# Altium footprint library gb2040.PcbLib: 20 footprints (part 1 of 2)
Each footprint in its own frame and in the unit in brackets; x right, y up, seen from the top. Pads: shape width x height; smd on the part's side, far side on the other; paste and mask are expansions set on the pad; w line width, h text height; cw(c..) or ccw(c..) is an arc to the next point about the centre after c.
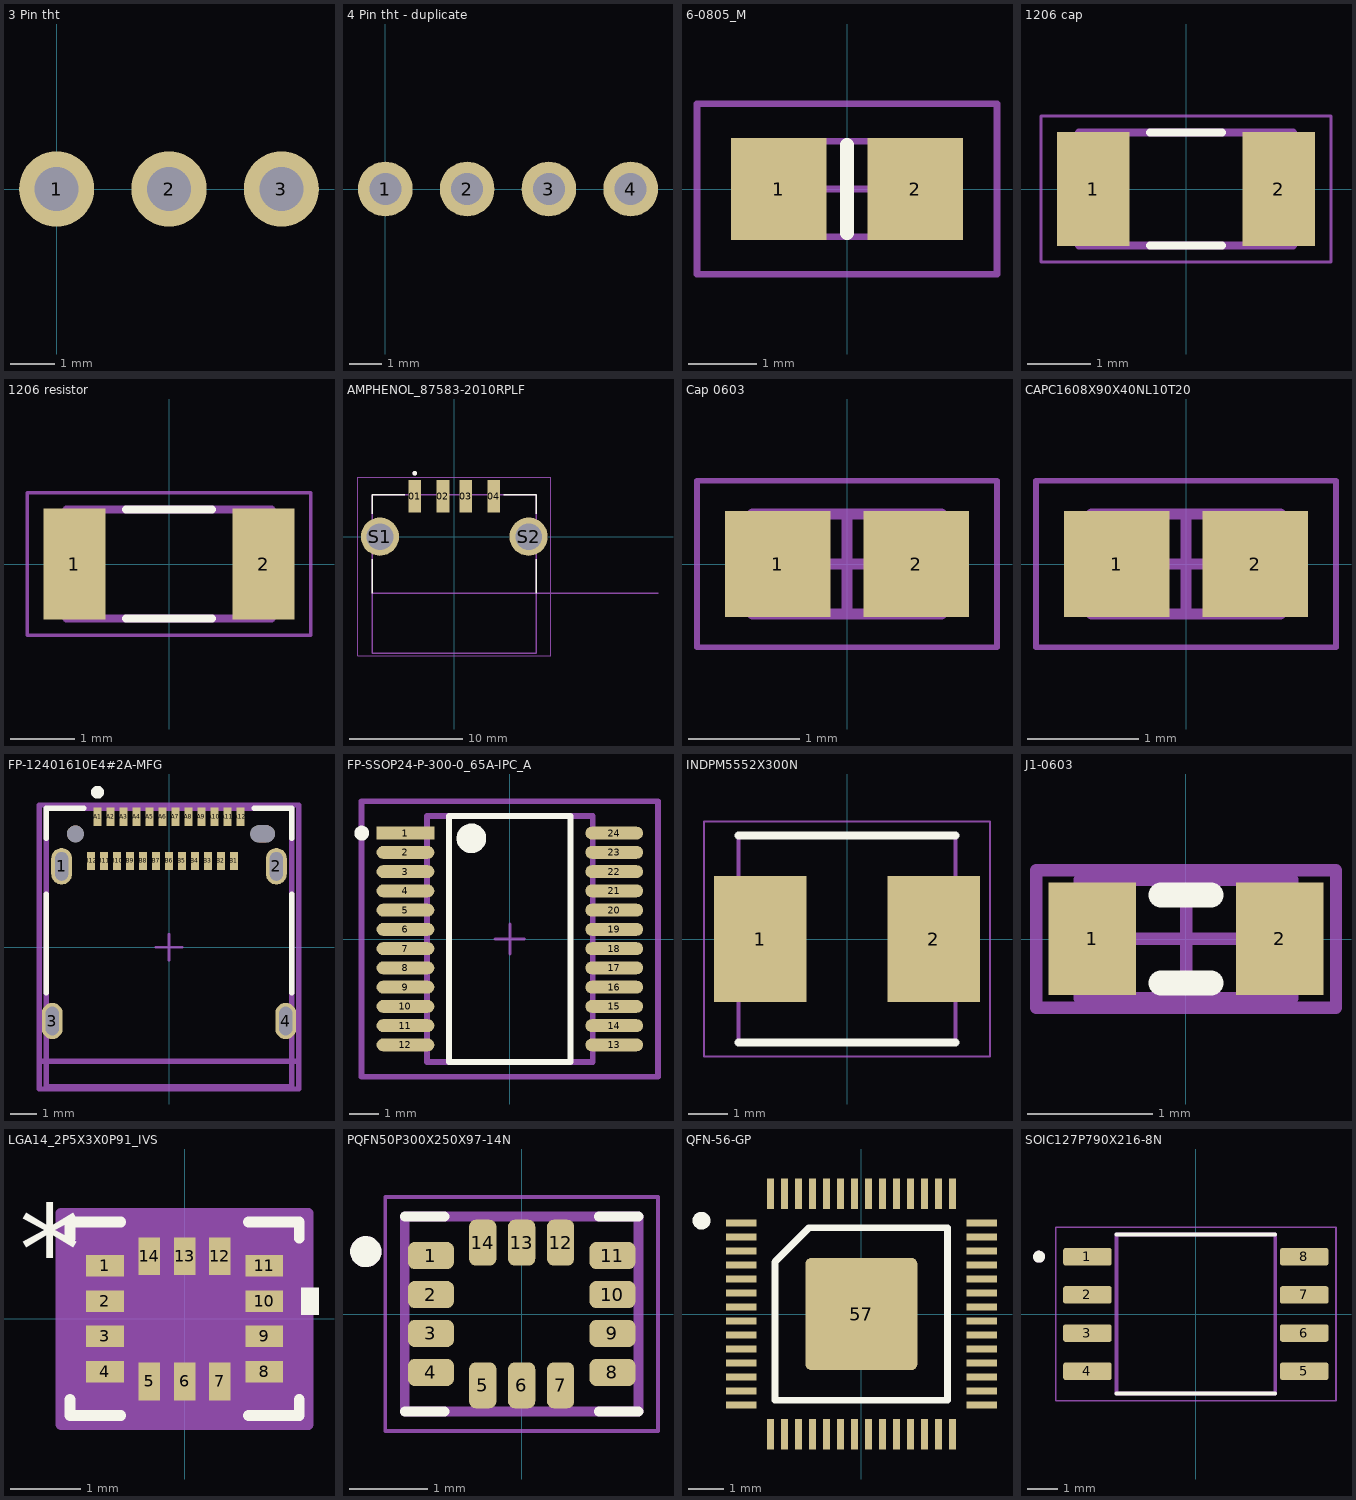
[diagram p0: the footprints below, top view; thin cyan lines are the x and y axes]

## 3 Pin tht [mm] "3 pin servo"
pads (3):
  round 1.7 hole 1 paste-1000 mask+0: 1(0,0) 2(2.54,0) 3(5.08,0)

## 4 Pin tht - duplicate [mm] "4 pin THT"
pads (4):
  round 1.7 hole 1 paste-1000 mask+0: 1(0,0) 2(2.54,0) 3(5.08,0) 4(7.62,0)

## 6-0805_M [mm] "Chip Resistor, Body 2.0x1.2mm, IPC Low Density"
height 0.7
pads (2):
  rect 1.4x1.5 smd: 1(-1,0) 2(1,0)
Top Overlay:
  lines w0.2: 0,-0.65 0,0.65
Mechanical 13:
  lines w0.1: -1.075,-0.7 -1.075,0.7 1.075,0.7 1.075,-0.7 -1.075,-0.7
Mechanical 15:
  lines w0.1: -0.5,0 0.5,0 ; 0,-0.5 0,0.5 ; -2.2,-1.25 -2.2,1.25 2.2,1.25 2.2,-1.25 -2.2,-1.25
3D body: height 0.7, standoff 0, extent -1.075,-0.7 1.075,0.7

## 1206 cap [mm]
pads (2):
  rect 1.16x1.82 smd: 1(-1.475,0) 2(1.475,0)
Top Overlay:
  lines w0.127: -0.57,-0.9 0.57,-0.9 ; -0.57,0.9 0.57,0.9
Mechanical 13:
  lines w0.127: -1.7,-0.9 1.7,-0.9 1.7,0.9 -1.7,0.9 -1.7,-0.9
Mechanical 15:
  lines w0.05: -2.308,-1.158 2.308,-1.158 2.308,1.158 -2.308,1.158 -2.308,-1.158
3D body "GRM32EC81C476KE15K.step": height 2.49, standoff -0.01, extent -1.6,-1.397 1.6,1.303

## 1206 resistor [mm] "based of RC1206JR-0713RL"
pads (2):
  rect 0.97x1.73 smd: 1(-1.48,0) 2(1.48,0)
Top Overlay:
  lines w0.127: -0.67,-0.85 0.67,-0.85 ; -0.67,0.85 0.67,0.85
Mechanical 13:
  lines w0.127: -1.6,-0.85 1.6,-0.85 1.6,0.85 -1.6,0.85 -1.6,-0.85
Mechanical 15:
  lines w0.05: -2.215,-1.115 2.215,-1.115 2.215,1.115 -2.215,1.115 -2.215,-1.115
3D body "step_temp.STEP": height 0.65, standoff 0, extent -1.55,-0.8 1.55,0.8

## AMPHENOL_87583-2010RPLF [mm]
height 7.74
pads (6):
  rect 1.12x2.88 smd: 01(-3.5,3.58) 02(-1,3.58) 03(1,3.58) 04(3.5,3.58)
  round 3.376 hole 2.36: S1(-6.57,0) S2(6.57,0)
Top Overlay:
  circle w0.2: c-3.5,5.6 r0.1
  lines w0.127: -7.25,-5 -7.25,-2.008 ; -7.25,2.008 -7.25,3.72 -4.38,3.72 ; 4.38,3.72 7.25,3.72 7.25,2.008 ; 7.25,-5 7.25,-2.008
Mechanical 13:
  circle w0.2: c-3.5,5.6 r0.1
  lines w0.127: 18,-5 -7.25,-5 ; -7.25,-5 -7.25,-10.28 7.25,-10.28 7.25,3.72 -7.25,3.72 -7.25,-5
  text "PCB EDGE" at 9,-4.5 h1.27
Mechanical 15:
  lines w0.05: -8.508,-10.53 8.508,-10.53 8.508,5.27 -8.508,5.27 -8.508,-10.53
3D body "step_temp.STEP": height 7.74, standoff -2.63, extent -7.25,-10.28 7.25,4.603

## Cap 0603 [mm] "Chip Capacitor, 2-Leads, Body 1.70x0.90mm, IPC Medium Density"
height 0.9
pads (2):
  rect 0.95x0.95 smd: 1(-0.625,0) 2(0.625,0)
Mechanical 13:
  lines w0.1: -0.85,-0.45 0.85,-0.45 0.85,0.45 -0.85,0.45 -0.85,-0.45
Mechanical 15:
  lines w0.05: -1.35,-0.75 1.35,-0.75 1.35,0.75 -1.35,0.75 -1.35,-0.75
  lines w0.1: -0.45,0 0.45,0 ; 0,-0.45 0,0.45
3D body "CAPC1608X09N.step": height 0.9, standoff 0, extent -0.85,-0.45 0.85,0.45

## CAPC1608X90X40NL10T20 [mm] "Chip Capacitor, 2-Leads, Body 1.70x0.90mm, IPC Medium Density"
height 0.9
pads (2):
  rect 0.95x0.95 smd: 1(-0.625,0) 2(0.625,0)
Mechanical 13:
  lines w0.1: -0.85,-0.45 -0.85,0.45 0.85,0.45 0.85,-0.45 -0.85,-0.45
Mechanical 15:
  lines w0.05: -1.35,-0.75 -1.35,0.75 1.35,0.75 1.35,-0.75 -1.35,-0.75
  lines w0.1: -0.45,0 0.45,0 ; 0,-0.45 0,0.45
3D body "CAPC1608X09N.step": height 0.9, standoff 0, extent -0.85,-0.45 0.85,0.45

## FP-12401610E4#2A-MFG [mm]
pads (30):
  rrect100% 0.8x1.4 hole 1.1 slot 0.5 at 0 deg paste-1000 mask+0: 1(-4.13,3.115) 2(4.13,3.115) 3(-4.49,-2.835) 4(4.49,-2.835)
  rect 0.3x0.7 smd paste+0 mask+0: A1(-2.75,5.025) A2(-2.25,5.025) A3(-1.75,5.025) A4(-1.25,5.025) A5(-0.75,5.025) A6(-0.25,5.025) A7(0.25,5.025) A8(0.75,5.025) A9(1.25,5.025) A10(1.75,5.025) A11(2.25,5.025) A12(2.75,5.025) B1(2.5,3.325) B2(2,3.325) B3(1.5,3.325) B4(1,3.325) B5(0.5,3.325) B6(0,3.325) B7(-0.5,3.325) B8(-1,3.325) B9(-1.5,3.325) B10(-2,3.325) B11(-2.5,3.325) B12(-3,3.325)
  round 0.65 hole 0.65 unplated paste-1000 mask+0: ""(-3.6,4.365)
  rrect100% 0.95x0.65 hole 0.65 slot 0.95 at 0 deg unplated paste-1000 mask+0: ""(3.6,4.365)
Top Overlay:
  circle w0.25: c-2.75,5.965 r0.125
  lines w0.2: -4.725,-1.76 -4.725,2.04 ; -4.725,4.19 -4.725,5.35 -3.275,5.35 ; 3.275,5.35 4.725,5.35 4.725,4.19 ; 4.725,-1.76 4.725,2.04
Top 3D Body:
  lines w0.2: -4.99,-4.385 4.99,-4.385 ; -4.725,-5.35 4.725,-5.35 4.725,5.35 -4.725,5.35 -4.725,-5.35
Top Courtyard:
  lines w0.2: -4.99,-5.45 4.99,-5.45 4.99,5.475 -4.99,5.475 -4.99,-5.45
Top Assembly:
  lines w0.2: -4.99,-5.45 4.99,-5.45 4.99,5.475 -4.99,5.475 -4.99,-5.45
  text ".Designator" at 0,0.012 h1
Top Component Center:
  lines w0.1: -0.5,0 0.5,0 ; 0,-0.5 0,0.5
3D body "Conn_Amphenol_12401610E4#2A_eec.STEP": height 0.25, standoff 0, extent -4.99,-5.45 4.99,5.475

## FP-SSOP24-P-300-0_65A-IPC_A [mm]
pads (24):
  rect 1.954x0.432 smd paste+0 mask+0: 1(-3.525,3.575)
  rrect100% 1.954x0.432 smd paste+0 mask+0: 2(-3.525,2.925) 3(-3.525,2.275) 4(-3.525,1.625) 5(-3.525,0.975) 6(-3.525,0.325) 7(-3.525,-0.325) 8(-3.525,-0.975) 9(-3.525,-1.625) 10(-3.525,-2.275) 11(-3.525,-2.925) 12(-3.525,-3.575) 13(3.525,-3.575) 14(3.525,-2.925) 15(3.525,-2.275) 16(3.525,-1.625) 17(3.525,-0.975) 18(3.525,-0.325) 19(3.525,0.325) 20(3.525,0.975) 21(3.525,1.625) 22(3.525,2.275) 23(3.525,2.925) 24(3.525,3.575)
Top Overlay:
  circle w0.5: c-1.298,3.4 r0.25
  circle w0.25: c-5.002,3.575 r0.125
  lines w0.2: -2.048,-4.15 2.048,-4.15 2.048,4.15 -2.048,4.15 -2.048,-4.15
Top 3D Body:
  lines w0.2: -2.8,-4.15 2.8,-4.15 2.8,4.15 -2.8,4.15 -2.8,-4.15
Top Courtyard:
  lines w0.2: -5.002,-4.65 5.002,-4.65 5.002,4.65 -5.002,4.65 -5.002,-4.65
Top Assembly:
  lines w0.2: -5.002,-4.65 5.002,-4.65 5.002,4.65 -5.002,4.65 -5.002,-4.65
  text ".Designator" at 0,0.188 h1
Top Component Center:
  lines w0.1: -0.5,0 0.5,0 ; 0,-0.5 0,0.5
3D body "IC_Toshiba_TB6612FNG_C_8_EL_eec.STEP": height 0.25, standoff 0, extent -5.002,-4.65 5.002,4.65

## INDPM5552X300N [mm]
pads (2):
  rect 2.35x3.2 smd: 1(-2.2,0) 2(2.2,0)
Top Overlay:
  lines w0.2: -2.75,-2.625 2.75,-2.625 ; -2.75,2.625 2.75,2.625
Mechanical 15:
  lines w0.1: -2.75,-2.625 -2.75,2.625 2.75,2.625 2.75,-2.625 -2.75,-2.625
Bottom Assembly:
  lines w0.05: -3.625,-2.975 -3.625,2.975 3.625,2.975 3.625,-2.975 -3.625,-2.975

## J1-0603 [mm] "Chip Resistor, Body 1.6x0.8mm, IPC High Density"
height 0.9
pads (2):
  rect 0.7x0.9 smd: 1(-0.75,0) 2(0.75,0)
Top Overlay:
  lines w0.2: -0.2,-0.35 0.2,-0.35 ; -0.2,0.35 0.2,0.35
Mechanical 13:
  lines w0.1: -0.85,-0.475 0.85,-0.475 0.85,0.475 -0.85,0.475 -0.85,-0.475
Mechanical 15:
  lines w0.1: -0.475,0 0.475,0 ; 0,-0.475 0,0.475 ; -1.2,-0.55 1.2,-0.55 1.2,0.55 -1.2,0.55 -1.2,-0.55
3D body: height 0.9, standoff 0, extent -0.85,-0.475 0.85,0.475

## LGA14_2P5X3X0P91_IVS [mil]
pads (14):
  rect 21x12 smd paste+0 mask+0: 1(-44.5,29.53) 2(-44.5,9.84) 3(-44.5,-9.84) 4(-44.5,-29.53) 8(44.5,-29.53) 9(44.5,-9.84) 10(44.5,9.84) 11(44.5,29.53)
  rect 12x21 smd paste+0 mask+0: 5(-19.68,-35) 6(0,-35) 7(19.68,-35) 12(19.68,35) 13(0,35) 14(-19.68,35)
Top Overlay:
  region: 65,17.34 75,17.34 75,2.34 65,2.34
  lines w6: -64,-45.05 -64,-54 -35.65,-54 ; -64,45.05 -64,54 -35.65,54 ; 35.65,-54 64,-54 64,-45.05 ; 35.65,54 64,54 64,45.05
  text "*" at -92.5,14.37 h50
Mechanical 13:
  lines w1: -59,-1 -9,49 ; -59,-49 59,-49 59,49 -59,49 -59,-49 ; -59,-35.53 -59,-23.53 -55,-23.53 -55,-35.53 -59,-35.53 ; -59,-15.84 -59,-3.84 -55,-3.84 -55,-15.84 -59,-15.84 ; -59,3.84 -59,15.84 -55,15.84 -55,3.84 -59,3.84 ; -59,23.53 -59,35.53 -55,35.53 -55,23.53 -59,23.53 ; -25.68,-49 -13.69,-49 -13.69,-45.5 -25.68,-45.5 -25.68,-49 ; -25.68,45.5 -13.69,45.5 -13.69,49 -25.68,49 -25.68,45.5 ; -6,-49 6,-49 6,-45.5 -6,-45.5 -6,-49 ; -6,45.5 6,45.5 6,49 -6,49 -6,45.5 ; 13.69,-49 25.68,-49 25.68,-45.5 13.69,-45.5 13.69,-49 ; 13.69,45.5 25.68,45.5 25.68,49 13.69,49 13.69,45.5 ; 55,-35.53 59,-35.53 59,-23.53 55,-23.53 55,-35.53 ; 55,-15.84 59,-15.84 59,-3.84 55,-3.84 55,-15.84 ; 55,3.84 59,3.84 59,15.84 55,15.84 55,3.84 ; 55,23.53 59,23.53 59,35.53 55,35.53 55,23.53
  text "*" at -46.5,14.37 h50
Mechanical 15:
  region: -35.69,-59 -69,-59 -69,-45.53 -69,45.53 -69,59 -35.69,59 35.69,59 69,59 69,45.53 69,-45.53 69,-59 35.69,-59
  lines w6: -69,-59 -69,-45.53 -69,45.53 -69,59 -35.69,59 35.69,59 69,59 69,45.53 69,-45.53 69,-59 35.69,-59 -35.69,-59 -69,-59
3D body "LGA14_2P5X3X0P91_IVS.step": height 38.11, standoff 0, extent -59.02,-49.02 59.02,49.02

## PQFN50P300X250X97-14N [mm]
pads (14):
  rrect50% 0.59x0.35 smd mask+0: 1(-1.165,0.75) 2(-1.165,0.25) 3(-1.165,-0.25) 4(-1.165,-0.75) 8(1.165,-0.75) 9(1.165,-0.25) 10(1.165,0.25) 11(1.165,0.75)
  rrect50% 0.35x0.59 smd mask+0: 5(-0.5,-0.915) 6(0,-0.915) 12(0.5,0.915) 13(0,0.915) 14(-0.5,0.915)
  rrect50% 0.35x0.59 smd mask+0.102: 7(0.5,-0.915)
Top Overlay:
  circle w0.2: c-2,0.8 r0.1
  lines w0.127: -1.5,-1.25 -0.99,-1.25 ; -1.5,1.25 -0.99,1.25 ; 0.99,-1.25 1.5,-1.25 ; 0.99,1.25 1.5,1.25
Mechanical 13:
  circle w0.2: c-2,0.8 r0.1
  lines w0.127: -1.5,-1.25 1.5,-1.25 1.5,1.25 -1.5,1.25 -1.5,-1.25
Mechanical 15:
  lines w0.05: -1.75,-1.5 1.75,-1.5 1.75,1.5 -1.75,1.5 -1.75,-1.5
3D body "ICM-42688-P.step": height 0.98, standoff 0.01, extent -1.5,-1.25 1.5,1.25

## QFN-56-GP [mm]
pads (57):
  rect 0.875x0.2 smd mask+0.05: 1(-3.437,2.6) 2(-3.437,2.2) 3(-3.437,1.8) 4(-3.437,1.4) 5(-3.437,1) 6(-3.437,0.6) 7(-3.437,0.2) 8(-3.437,-0.2) 9(-3.437,-0.6) 10(-3.437,-1) 11(-3.437,-1.4) 12(-3.437,-1.8) 13(-3.437,-2.2) 14(-3.437,-2.6) 29(3.437,-2.6) 30(3.437,-2.2) 31(3.437,-1.8) 32(3.437,-1.4) 33(3.437,-1) 34(3.437,-0.6) 35(3.437,-0.2) 36(3.437,0.2) 37(3.437,0.6) 38(3.437,1) 39(3.437,1.4) 40(3.437,1.8) 41(3.437,2.2) 42(3.437,2.6)
  rect 0.2x0.875 smd mask+0.05: 15(-2.6,-3.437) 16(-2.2,-3.437) 17(-1.8,-3.437) 18(-1.4,-3.437) 19(-1,-3.437) 20(-0.6,-3.437) 21(-0.2,-3.437) 22(0.2,-3.437) 23(0.6,-3.437) 24(1,-3.437) 25(1.4,-3.437) 26(1.8,-3.437) 27(2.2,-3.437) 28(2.6,-3.437) 43(2.6,3.437) 44(2.2,3.437) 45(1.8,3.437) 46(1.4,3.437) 47(1,3.437) 48(0.6,3.437) 49(0.2,3.437) 50(-0.2,3.437) 51(-0.6,3.437) 52(-1,3.437) 53(-1.4,3.437) 54(-1.8,3.437) 55(-2.2,3.437) 56(-2.6,3.437)
  rrect10% 3.2x3.2 smd paste-1000 mask+0: 57(0,0)
Top Overlay:
  circle w0.254: c-4.572,2.667 r0.127
  lines w0.2: -2.465,-2.465 2.465,-2.465 2.465,2.465 -1.492,2.465 -2.465,1.492 -2.465,-2.465
3D body "User Library-RP2040_QFN56_04.STEP": height 0.91, standoff 0.01, extent -3.52,-3.52 3.52,3.52

## SOIC127P790X216-8N [mm]
pads (8):
  rrect25% 1.61x0.58 smd: 1(-3.605,1.905) 2(-3.605,0.635) 3(-3.605,-0.635) 4(-3.605,-1.905) 5(3.605,-1.905) 6(3.605,-0.635) 7(3.605,0.635) 8(3.605,1.905)
Top Overlay:
  circle w0.2: c-5.215,1.905 r0.1
  lines w0.127: -2.64,-2.64 2.64,-2.64 ; -2.64,2.64 2.64,2.64
Mechanical 13:
  circle w0.2: c-5.215,1.905 r0.1
  lines w0.127: -2.64,-2.64 2.64,-2.64 2.64,2.64 -2.64,2.64 -2.64,-2.64
Mechanical 15:
  lines w0.05: -4.66,-2.89 4.66,-2.89 4.66,2.89 -4.66,2.89 -4.66,-2.89
3D body "W25Q128JVSIQ.step": height 1.92, standoff -0.24, extent -3.95,-2.64 3.95,2.64